# Altium schematic symbol library U_AL5809.SchLib: 1 symbol
Pins are listed as number, name and electrical type; pins without a type are passive.

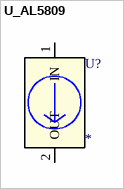
[diagram p0: symbol U_AL5809]

## U_AL5809
designator U?
pins: 1 IN, 2 OUT